# EAGLE library part PINHD-2X5 (library densikit)
PIN HEADER
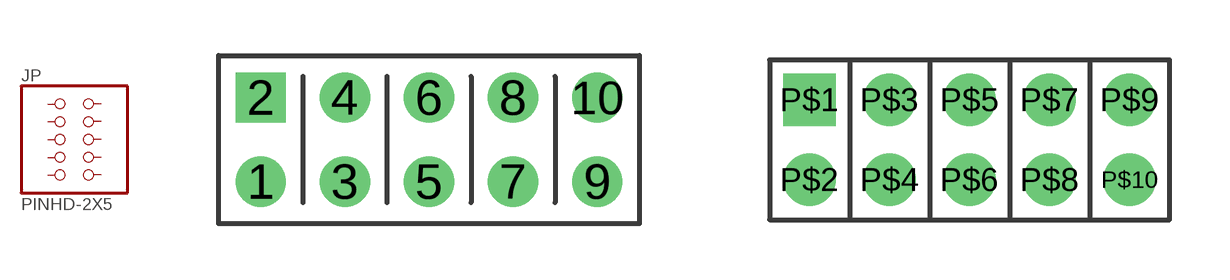
[diagram p0: symbol with the pads of 2X05; footprints 2X05, 2X05-2MM]

Designator prefix JP

## PINHD-2X5  [2X05]
1  1  pas
2  2  pas
3  3  pas
4  4  pas
5  5  pas
6  6  pas
7  7  pas
8  8  pas
9  9  pas
10  10  pas

## PINHD-2X5-2MM  [2X05-2MM]
P$1  1  pas
P$2  2  pas
P$3  3  pas
P$4  4  pas
P$5  5  pas
P$6  6  pas
P$7  7  pas
P$8  8  pas
P$9  9  pas
P$10  10  pas

## PINHD-2X5-2MM-SJ  [2X05-2MM-SJ]
Pads as for 2X05-2MM

## Footprint 2X05 (pad centres in mm)
PIN HEADER
drill 1.016: 1 -5.08,-1.27; 3 -2.54,-1.27; 4 -2.54,1.27; 5 0,-1.27; 6 0,1.27; 7 2.54,-1.27; 8 2.54,1.27; 9 5.08,-1.27; 10 5.08,1.27
drill 1.016 square: 2 -5.08,1.27

## Footprint 2X05-2MM (pad centres in mm)
drill 0.8 square: P$1 0,2
drill 0.8: P$2 0,0; P$3 2,2; P$4 2,0; P$5 4,2; P$6 4,0; P$7 6,2; P$8 6,0; P$9 8,2; P$10 8,0

## Footprint 2X05-2MM-SJ (pad centres in mm)
drill 0.8 square: P$1 -4.014,0.984
drill 0.8: P$2 -4.014,-1.016; P$3 -2.014,0.984; P$4 -2.014,-1.016; P$5 -0.014,0.984; P$6 -0.014,-1.016; P$7 1.986,0.984; P$8 1.986,-1.016; P$9 3.986,0.984; P$10 3.986,-1.016